# EAGLE library part HMC541LP3 (library Lasser)
Hittite HMC541LP3 10dB GaAs MMIC 1-bit Digital positive Control Attenuator DC-5 GHz
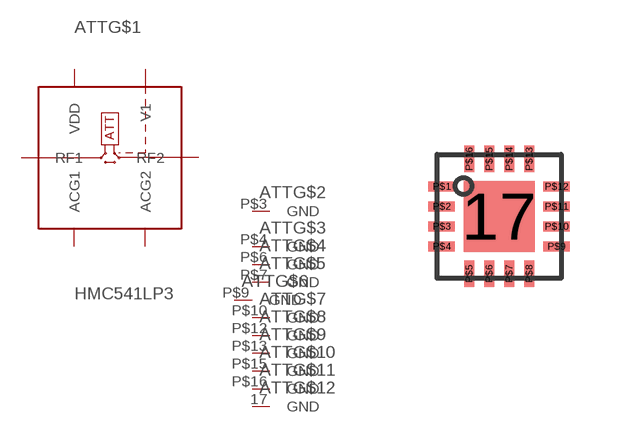
[diagram p14: symbol with the pads of LP3; footprint LP3]

Designator prefix ATT; gates G$1=SWITCHABLEATT G$2=GND G$3=GND G$4=GND G$5=GND G$6=GND G$7=GND G$8=GND G$9=GND G$10=GND G$11=GND G$12=GND

## HMC541LP3  [LP3]
17  G$12:GND  pwr
P$1  G$1:VDD
P$2  G$1:RF1
P$3  G$2:GND  pwr
P$4  G$3:GND  pwr
P$5  G$1:ACG1
P$6  G$4:GND  pwr
P$7  G$5:GND  pwr
P$8  G$1:ACG2
P$9  G$6:GND  pwr
P$10  G$7:GND  pwr
P$11  G$1:RF2
P$12  G$8:GND  pwr
P$13  G$9:GND  pwr
P$14  G$1:V1
P$15  G$10:GND  pwr
P$16  G$11:GND  pwr

## Footprint LP3 (pad centres in mm)
LP3 (E) 3 x 3 mm Quad Flatpack No-Lead (QFN) Package Source: Hittite
smd 1.78 x 1.78: 17 0,0
smd 0.66 x 0.254: P$1 -1.435,0.751; P$2 -1.435,0.251; P$3 -1.435,-0.249; P$4 -1.435,-0.749; P$9 1.435,-0.751; P$10 1.435,-0.251; P$11 1.435,0.249; P$12 1.435,0.749
smd 0.254 x 0.66: P$5 -0.751,-1.435; P$6 -0.251,-1.435; P$7 0.249,-1.435; P$8 0.749,-1.435; P$13 0.751,1.435; P$14 0.251,1.435; P$15 -0.249,1.435; P$16 -0.749,1.435